# Altium schematic symbol library MAX4899AEETE+T.SchLib: 1 symbol
Pins are listed as number, name and electrical type; pins without a type are passive.

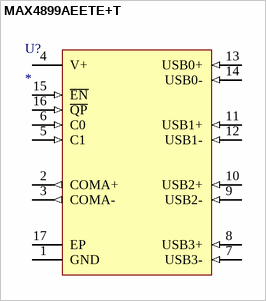
[diagram p0: symbol MAX4899AEETE+T]

## MAX4899AEETE+T
designator U?
Value: *
pins: 1 GND (power), 2 COMA+ (out), 3 COMA- (out), 4 V+ (power), 5 C1 (in), 6 C0 (in), 7 USB3- (in), 8 USB3+ (in), 9 USB2- (in), 10 USB2+ (in), 11 USB1+ (in), 12 USB1- (in), 13 USB0+ (in), 14 USB0- (in), 15 ~{EN} (in), 16 ~{QP} (in), 17 EP (power)